# EAGLE library part USB_TYPE_C (library Bits_library_eagle 9x)
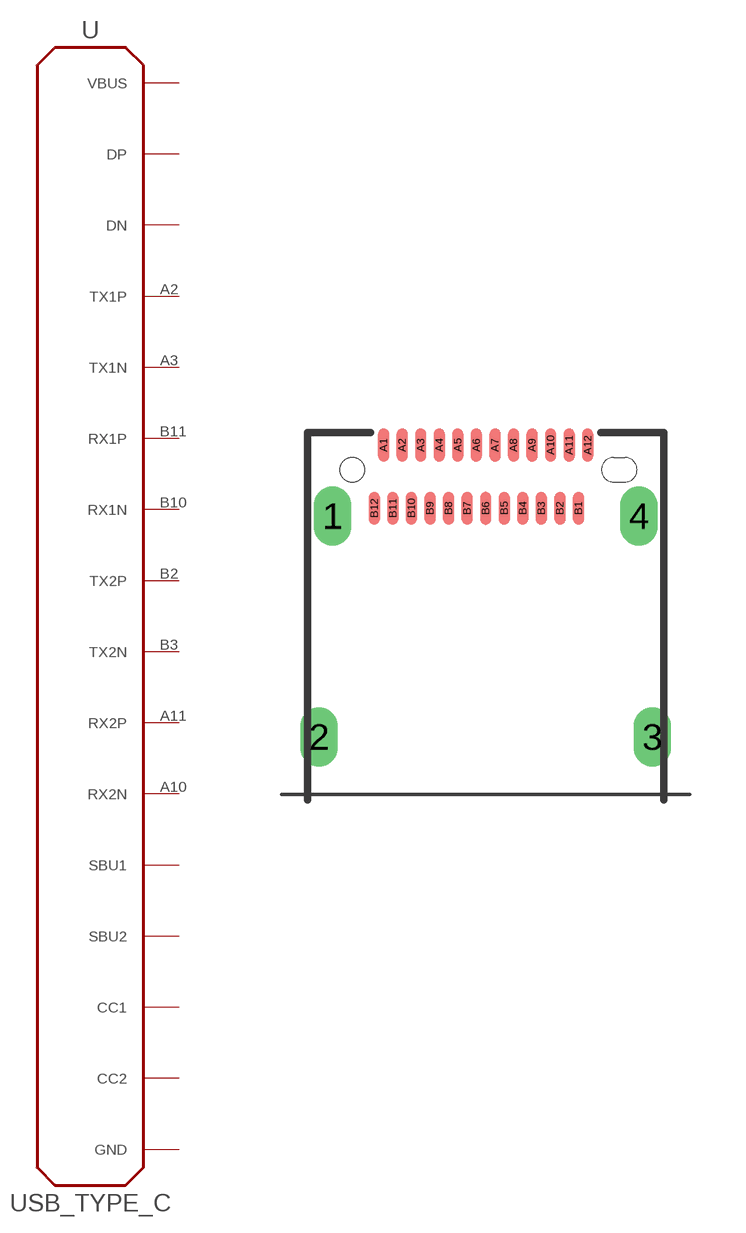
[diagram p15: symbol with the pads of USB_C_12401598; footprint USB_C_12401598]

Designator prefix -

## USB_TYPE_CAPHENOL  [USB_C_12401598]
1  GND  pwr
2  GND  pwr
3  GND  pwr
4  GND  pwr
A1  GND  pwr
A2  TX1P
A3  TX1N
A4  VBUS  pwr
A5  CC1
A6  DP
A7  DN
A8  SBU1
A9  VBUS  pwr
A10  RX2N
A11  RX2P
A12  GND  pwr
B1  GND  pwr
B2  TX2P
B3  TX2N
B4  VBUS  pwr
B5  CC2
B6  DP
B7  DN
B8  SBU2
B9  VBUS  pwr
B10  RX1N
B11  RX1P
B12  GND  pwr

## Footprint USB_C_12401598 (pad centres in mm)
drill 0.5 pad 0.8 slot 1.1 rotated 90: 1 -4.13,-1.25; 2 -4.49,-7.2; 3 4.49,-7.2; 4 4.13,-1.25
smd 0.3 x 0.9: A1 -2.75,0.66; A2 -2.25,0.66; A3 -1.75,0.66; A4 -1.25,0.66; A5 -0.75,0.66; A6 -0.25,0.66; A7 0.25,0.66; A8 0.75,0.66; A9 1.25,0.66; A10 1.75,0.66; A11 2.25,0.66; A12 2.75,0.66; B1 2.5,-1.04; B2 2,-1.04; B3 1.5,-1.04; B4 1,-1.04; B5 0.5,-1.04; B6 0,-1.04; B7 -0.5,-1.04; B8 -1,-1.04; B9 -1.5,-1.04; B10 -2,-1.04; B11 -2.5,-1.04; B12 -3,-1.04